# Altium footprint library MAX9744_AMP Module.PcbLib: 1 footprints
Each footprint in its own frame and in the unit in brackets; x right, y up, seen from the top. Pads: shape width x height; smd on the part's side, far side on the other; paste and mask are expansions set on the pad; w line width, h text height; cw(c..) or ccw(c..) is an arc to the next point about the centre after c.
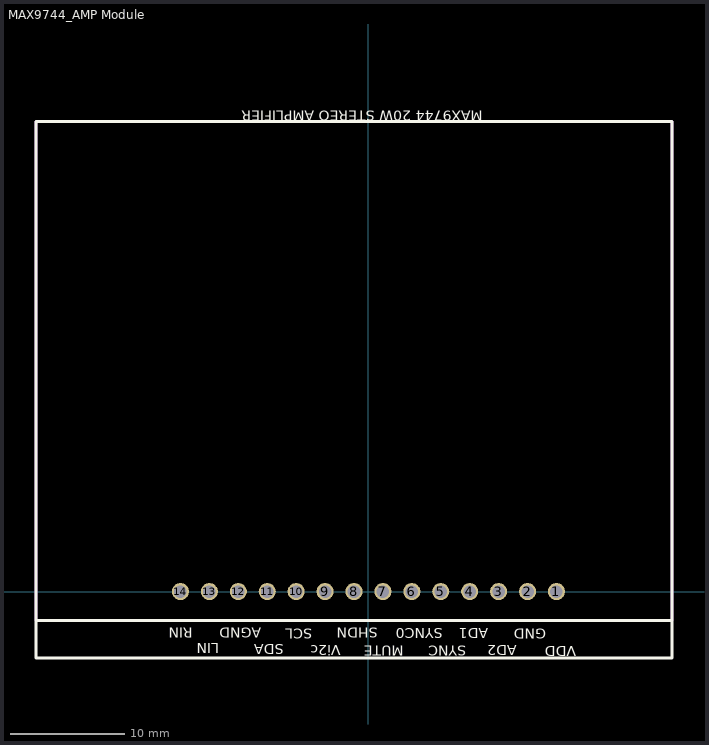
[diagram p0: the footprint, top view; thin cyan lines are the x and y axes]

## MAX9744_AMP Module [mm] "20W Stereo Amplifier"
pads (14):
  round 1.5 hole 1.1: 1(16.51,0) 2(13.97,0) 3(11.43,0) 4(8.89,0) 5(6.35,0) 6(3.81,0) 7(1.27,0) 8(-1.27,0) 9(-3.81,0) 10(-6.35,0) 11(-8.89,0) 12(-11.43,0) 13(-13.97,0) 14(-16.51,0)
Top Overlay:
  lines w0.254: -29.21,-2.54 -29.21,-5.842 26.67,-5.842 26.67,-2.54 ; -29.21,-2.54 -29.21,41.275 26.67,41.275 26.67,-2.54 ; -29.21,-2.54 26.67,-2.54
  text "RIN" at -15.42,-2.87 h1.52
  text "LIN" at -13.117,-4.242 h1.52
  text "AGND" at -9.395,-2.887 h1.52
  text "SDA" at -7.443,-4.335 h1.52
  text "SCL" at -4.952,-2.938 h1.52
  text "Vi2c" at -2.417,-4.41 h1.52
  text "SHDN" at 0.802,-2.887 h1.52
  text "MUTE" at 3.114,-4.437 h1.52
  text "SYNC0" at 6.502,-2.913 h1.52
  text "SYNC" at 8.566,-4.462 h1.52
  text "AD1" at 10.523,-2.921 h1.52
  text "AD2" at 13.025,-4.42 h1.52
  text "GND" at 15.59,-2.938 h1.52
  text "VDD" at 18.265,-4.496 h1.52
  text "MAX9744 20W STEREO AMPLIFIER" at 10.036,42.528 h1.52
Mechanical 1:
  lines w0.254: -29.21,-2.54 26.67,-2.54 26.67,41.275 -29.21,41.275 -29.21,-2.54
  text ".designator" at -9.185,17.145 h3.81
3D body "1752 MAX9744.step": height 10.61, standoff 0.01, extent -28.94,-2.365 26.4,41.275